# Altium integrated library lt-supply.IntLib: 6 symbols
Pins are listed as number, name and electrical type; pins without a type are passive.

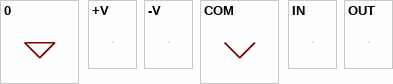
[diagram p0: symbols 0 to OUT]

## 0
designator V0_?
pins: ?1 0 (oe)

## +V
designator SUPPLY?
VALUE2: node; SPICEMODEL: node.sub
pins: ?1 +V (oe)

## -V
designator SUPPLY?
VALUE2: node; SPICEMODEL: node.sub
pins: ?1 -V (oe)

## COM
designator COM?
pins: ?1 COM (oe)

## IN
designator SUPPLY?
VALUE2: node; SPICEMODEL: node.sub
pins: ?1 IN (oe)

## OUT
designator SUPPLY?
VALUE2: node; SPICEMODEL: node.sub
pins: ?1 OUT (oe)